# EAGLE library part TPAD2005D1DGNR (library BB8)
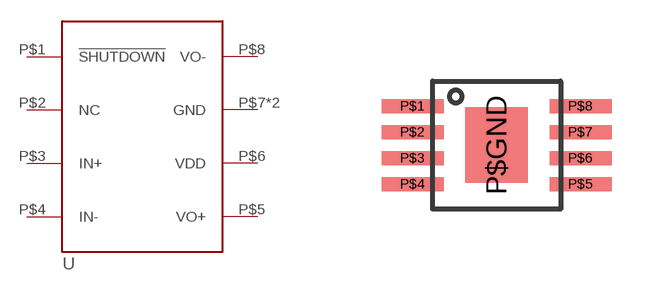
[diagram p13: symbol with the pads of R-PDSO-G8; footprint R-PDSO-G8]

Designator prefix U

## TPAD2005D1DGNR  [R-PDSO-G8]
P$1  !SHUTDOWN
P$2  NC
P$3  IN+
P$4  IN-
P$5  VO+
P$6  VDD
P$7  GND
P$8  VO-
P$GND  GND

## Footprint R-PDSO-G8 (pad centres in mm)
smd 1.55 x 0.35: P$1 -2.1,0.975; P$2 -2.1,0.325; P$3 -2.1,-0.325; P$4 -2.1,-0.975; P$5 2.1,-0.975; P$6 2.1,-0.325; P$7 2.1,0.325; P$8 2.1,0.975
smd 1.57 x 1.89: P$GND 0,0